# EAGLE library part HSDL-3612-007/037 (library agilent-infrared)
Agilent HSDL-3612-007/037 infrared device.
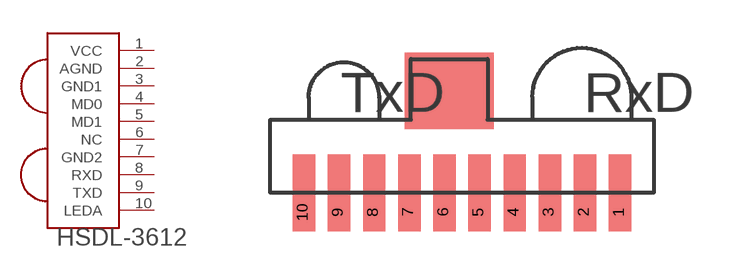
[diagram p1: symbol with the pads of HSDL-3612-007/-037; footprint HSDL-3612-007/-037]

Designator prefix -

## HSDL-3612-007/037  [HSDL-3612-007/-037]
1  VCC
2  AGND
3  GND1
4  MD0
5  MD1
6  NC
7  GND2
8  RXD
9  TXD
10  LEDA

## Footprint HSDL-3612-007/-037 (pad centres in mm)
The package only for Agilent HSDL-3612-007/037 infrared devices!!!
smd 0.508 x 1.016: 1 4.9,-0.6; 2 3.8,-0.6; 3 2.7,-0.6; 4 1.6,-0.6; 5 0.5,-0.6; 6 -0.6,-0.6; 7 -1.7,-0.6; 8 -2.8,-0.6; 9 -3.9,-0.6; 10 -5,-0.6